# Altium schematic symbol library Relays.SchLib: 3 symbols
Pins are listed as number, name and electrical type; pins without a type are passive.

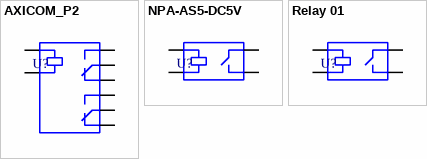
[diagram p0: symbols AXICOM_P2 to Relay 01]

## AXICOM_P2
designator U?  (value not drawn)
Relay 5V coil signal 2 groups
pins: 1, 3, 4, 5, 8, 9, 10, 12

## NPA-AS5-DC5V
designator U?  (value not drawn)
Relay 5V coil 5A contacts
pins: 1, 2, 3, 4, 5

## Relay 01
designator U?, comment Relay  (value not drawn)
Relay 5V coil 5A contacts
pins: 1, 2, 3, 4